# Altium footprint library inductors.PCBLIB: 83 footprints (part 3 of 6)
Each footprint in its own frame and in the unit in brackets; x right, y up, seen from the top. Pads: shape width x height; smd on the part's side, far side on the other; paste and mask are expansions set on the pad; w line width, h text height; cw(c..) or ccw(c..) is an arc to the next point about the centre after c.
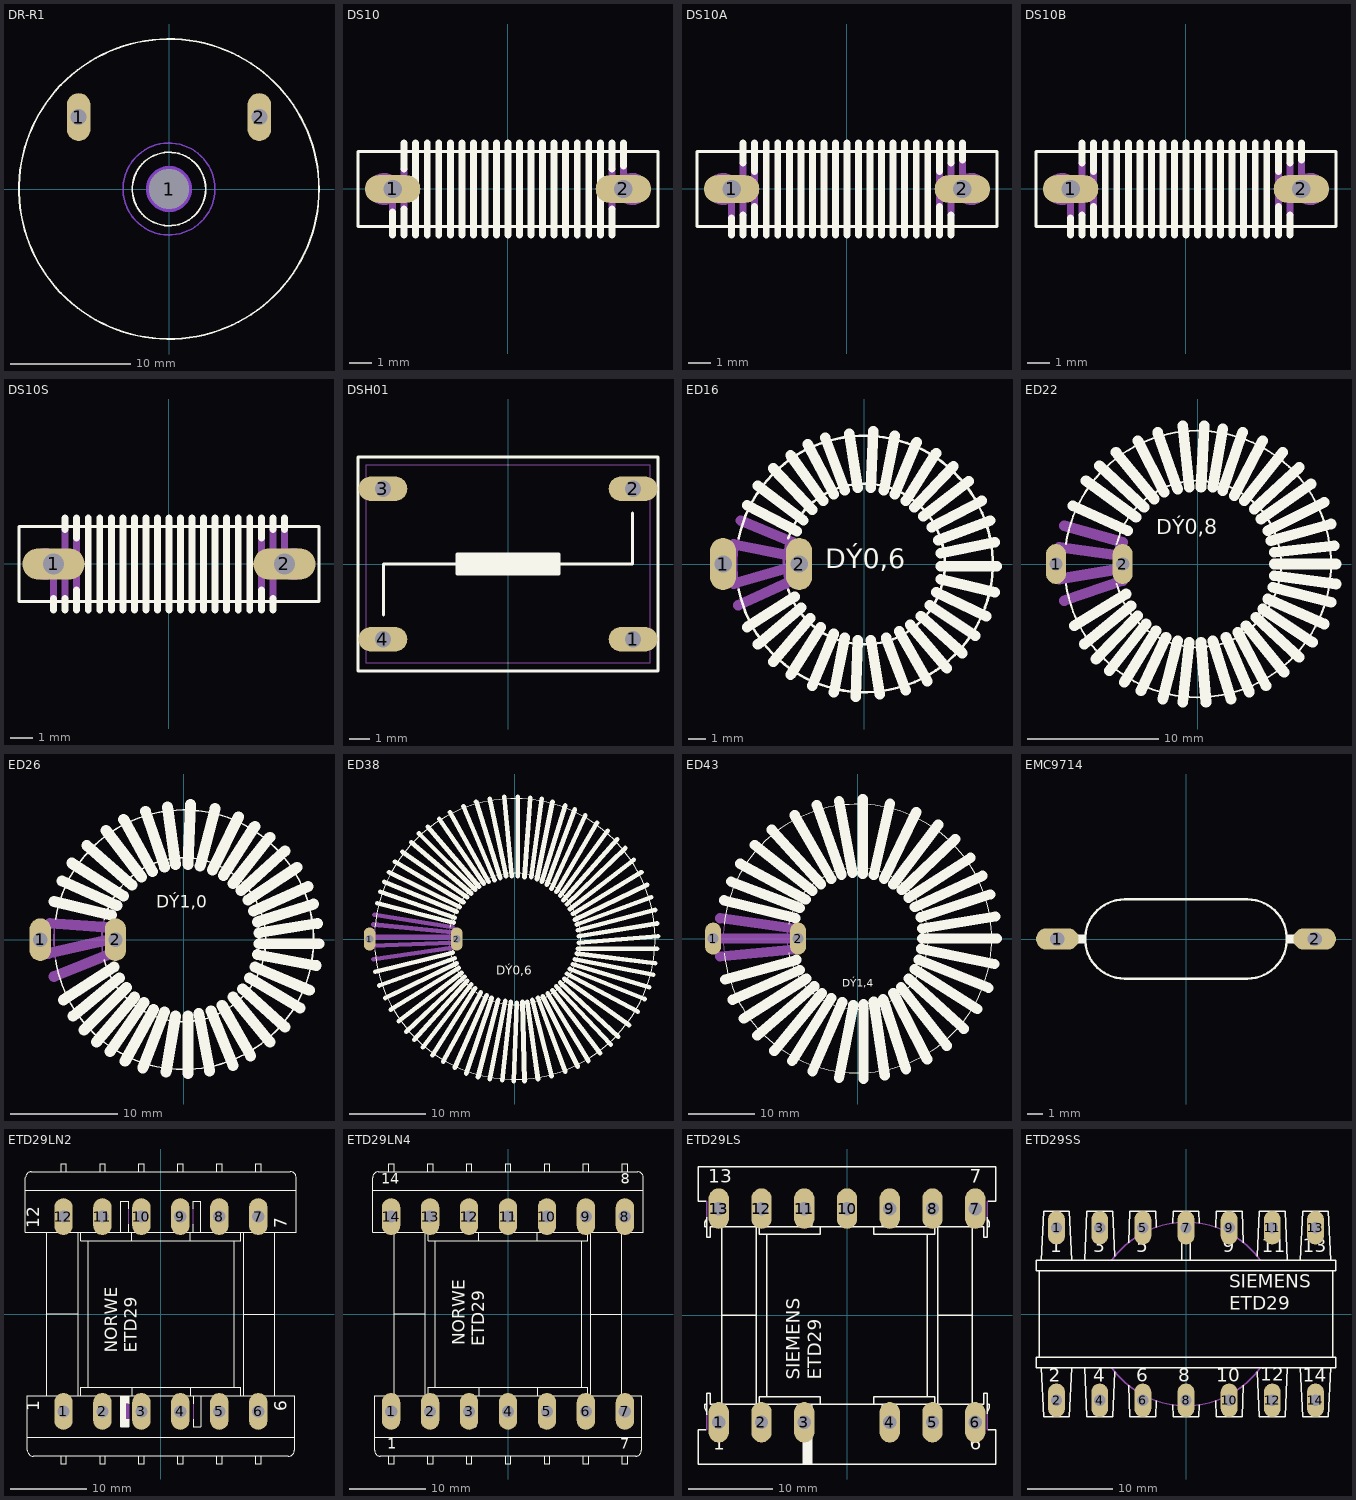
[diagram p2: the footprints below, top view; thin cyan lines are the x and y axes]

## DR-R1 [mil]
pads (3):
  oval 78x156 hole 52: 1(-295,235) 2(295,235)
  round 130 hole 130: 1(0,0)
Top Layer keep-out:
  circle w5: c0,0 r150
Bottom Layer keep-out:
  circle w5: c0,0 r150
  circle w100: c0,0 r25
Top Overlay:
  circle w6: c0,0 r490
  circle w6: c0,0 r120
  circle w6: c0,0 r60
Via Holes:
  circle w5: c0,0 r150

## DS10 [mil]
pads (2):
  oval 96x48 hole 32: 1(-200,0) 2(200,0)
Top Overlay:
  lines w6: -260,-65 260,-65 260,65 -260,65 -260,-65
  lines w12: -200,-80 -200,-40 ; -180,-80 -180,-35 ; -180,35 -180,80 ; -160,-80 -160,80 ; -140,-80 -140,80 ; -120,-80 -120,80 ; -100,-80 -100,80 ; -80,-80 -80,80 ; -60,-80 -60,80 ; -40,-80 -40,80 ; -20,-80 -20,80 ; 0,-80 0,80 ; 20,-80 20,80 ; 40,-80 40,80 ; 60,-80 60,80 ; 80,-80 80,80 ; 100,-80 100,80 ; 120,-80 120,80 ; 140,-80 140,80 ; 160,-80 160,80 ; 180,-80 180,-35 ; 180,35 180,80 ; 200,40 200,80
Mechanical 16:
  circle w6: c-215,0 r25
  circle w6: c215,0 r25
  lines w12: -200,-40 -200,5 ; -180,-35 -180,35 ; 180,-35 180,35 ; 200,-5 200,40

## DS10A [mil]
pads (2):
  oval 96x48 hole 32: 1(-200,0) 2(200,0)
Top Overlay:
  lines w6: -260,-65 260,-65 260,65 -260,65 -260,-65
  lines w12: -200,-80 -200,-50 ; -180,-80 -180,-45 ; -180,45 -180,80 ; -160,-80 -160,-30 ; -160,30 -160,80 ; -140,-80 -140,80 ; -120,-80 -120,80 ; -100,-80 -100,80 ; -80,-80 -80,80 ; -60,-80 -60,80 ; -40,-80 -40,80 ; -20,-80 -20,80 ; 0,-80 0,80 ; 20,-80 20,80 ; 40,-80 40,80 ; 60,-80 60,80 ; 80,-80 80,80 ; 100,-80 100,80 ; 120,-80 120,80 ; 140,-80 140,80 ; 160,-80 160,-30 ; 160,30 160,80 ; 180,-80 180,-45 ; 180,45 180,80 ; 200,50 200,80
Mechanical 16:
  circle w6: c-215,0 r25
  circle w6: c215,0 r25
  lines w12: -200,-50 -200,5 ; -180,-45 -180,45 ; -160,-30 -160,30 ; 160,-30 160,30 ; 180,-45 180,45 ; 200,-5 200,50

## DS10B [mil]
pads (2):
  oval 96x48 hole 32: 1(-200,0) 2(200,0)
Top Overlay:
  lines w6: -260,-65 260,-65 260,65 -260,65 -260,-65
  lines w12: -200,-80 -200,-50 ; -180,-80 -180,-45 ; -180,45 -180,80 ; -160,-80 -160,-30 ; -160,30 -160,80 ; -140,-80 -140,80 ; -120,-80 -120,80 ; -100,-80 -100,80 ; -80,-80 -80,80 ; -60,-80 -60,80 ; -40,-80 -40,80 ; -20,-80 -20,80 ; 0,-80 0,80 ; 20,-80 20,80 ; 40,-80 40,80 ; 60,-80 60,80 ; 80,-80 80,80 ; 100,-80 100,80 ; 120,-80 120,80 ; 140,-80 140,80 ; 160,-80 160,-30 ; 160,30 160,80 ; 180,-80 180,-45 ; 180,45 180,80 ; 200,50 200,80
Mechanical 16:
  circle w6: c-215,0 r25
  circle w6: c215,0 r25
  lines w12: -200,-50 -200,5 ; -180,-45 -180,45 ; -160,-30 -160,30 ; 160,-30 160,30 ; 180,-45 180,45 ; 200,-5 200,50

## DS10S [mil]
pads (2):
  oval 108x54 hole 36: 1(-200,0) 2(200,0)
Top Overlay:
  lines w6: -260,-65 260,-65 260,65 -260,65 -260,-65
  lines w12: -200,-80 -200,-60 ; -180,-80 -180,-60 ; -180,60 -180,80 ; -160,-80 -160,-45 ; -160,45 -160,80 ; -140,-80 -140,80 ; -120,-80 -120,80 ; -100,-80 -100,80 ; -80,-80 -80,80 ; -60,-80 -60,80 ; -40,-80 -40,80 ; -20,-80 -20,80 ; 0,-80 0,80 ; 20,-80 20,80 ; 40,-80 40,80 ; 60,-80 60,80 ; 80,-80 80,80 ; 100,-80 100,80 ; 120,-80 120,80 ; 140,-80 140,80 ; 160,-80 160,-45 ; 160,45 160,80 ; 180,-80 180,-60 ; 180,60 180,80 ; 200,60 200,80
Mechanical 16:
  circle w6: c-215,0 r25
  circle w6: c215,0 r25
  lines w12: -200,-60 -200,5 ; -180,-60 -180,60 ; -160,-45 -160,45 ; 160,-45 160,45 ; 180,-60 180,60 ; 200,-5 200,60

## DSH01 [mil]
pads (4):
  oval 96x48 hole 32: 1(246,-148) 2(246,148) 3(-246,148) 4(-246,-148)
Top Overlay:
  rectangle: -100,-20 100,20
  lines w6: -245,-100 -245,0 -100,0 ; 245,100 245,0 100,0 ; -100,0 -100,20 100,20 100,0 ; -100,0 -100,-20 100,-20 100,0 ; -295,-210 295,-210 295,210 -295,210 -295,-210
Mechanical 16:
  lines w2: -280,-195 280,-195 280,195 -280,195 -280,-195

## ED16 [mil]
pads (2):
  oval 60x120 hole 40: 1(-325,0) 2(-150,0)
Top Overlay:
  lines w6: -288.9,-59.69 ccw(c0,0) -288.9,59.69 ; -175.27,-59.2 ccw(c-0.01,0) -175.27,59.2
  lines w24: -270,-145 -160,-75 ; -270,135 -155,75 ; -245,-185 -145,-100 ; -245,180 -140,100 ; -210,-225 -125,-125 ; -210,220 -120,125 ; -170,-255 -100,-145 ; -170,250 -95,145 ; -130,275 -70,160 ; -120,-280 -70,-160 ; -90,290 -45,170 ; -70,-295 -45,-170 ; -35,300 -15,175 ; -20,-305 -15,-175 ; 15,-175 35,-300 ; 15,175 20,305 ; 45,170 70,295 ; 50,-170 95,-290 ; 70,160 120,280 ; 80,-155 145,-270 ; 95,145 165,255 ; 105,-140 190,-240 ; 115,130 205,225 ; 130,-120 225,-205 ; 135,110 240,190 ; 150,-95 255,-165 ; 155,85 270,145 ; 165,-65 280,-120 ; 170,55 290,100 ; 175,-35 300,-65 ; 175,-5 305,-5 ; 175,25 300,50
  text "DÝ0,6" at -90,-25 h77.5
Mechanical 16:
  lines w6: -288.9,-59.69 cw(c0,0) -288.9,59.69 ; -175.27,-59.2 cw(c-0.01,0) -175.27,59.2
  lines w24: -300,-45 -160,-5 ; -300,45 -175,20 ; -290,-95 -170,-40 ; -285,100 -165,50

## ED22 [mil]
pads (2):
  oval 60x120 hole 40: 1(-425,0) 2(-225,0)
Top Overlay:
  lines w6: -395.5,-59.83 ccw(c0,0) -395.5,59.83 ; -242.8,-59.57 ccw(c0.01,0) -242.8,59.57
  lines w32: -375,175 -210,100 ; -370,-185 -215,-90 ; -340,-240 -200,-125 ; -335,250 -185,140 ; -305,-285 -180,-155 ; -295,295 -160,170 ; -265,-320 -155,-180 ; -245,335 -130,195 ; -220,-355 -125,-200 ; -180,370 -100,215 ; -170,-380 -95,-220 ; -120,395 -60,225 ; -105,-405 -60,-230 ; -45,-415 -25,-235 ; -45,415 -25,230 ; 10,-235 25,-415 ; 10,230 20,415 ; 45,-230 100,-405 ; 45,230 75,405 ; 75,220 135,395 ; 85,-220 155,-385 ; 110,205 195,370 ; 120,-205 205,-365 ; 140,190 255,335 ; 145,-185 260,-325 ; 170,165 305,290 ; 175,-160 305,-280 ; 190,135 340,240 ; 195,-135 345,-235 ; 210,-105 380,-180 ; 210,100 380,185 ; 220,70 400,120 ; 225,-70 400,-115 ; 230,-35 415,-60 ; 230,0 415,0 ; 230,35 410,55
  text "DÝ0,8" at -125,75 h77.5
Mechanical 16:
  lines w6: -395.5,-59.83 cw(c0,0) -395.5,59.83 ; -242.8,-59.57 cw(c0.01,0) -242.8,59.57
  lines w32: -415,-45 -235,-15 ; -415,50 -230,25 ; -400,-110 -225,-50 ; -400,115 -225,65

## ED26 [mil]
pads (2):
  oval 78x156 hole 52: 1(-525,0) 2(-250,0)
Top Overlay:
  lines w6: -469.08,-74.77 ccw(c0.01,0) -469.08,74.77 ; -290.63,-74.41 ccw(c-0.02,0) -290.63,74.41
  lines w40: -475,140 -265,90 ; -445,215 -245,125 ; -440,-220 -255,-100 ; -410,280 -220,160 ; -405,-280 -235,-140 ; -365,-330 -210,-175 ; -355,345 -190,200 ; -320,-375 -180,-210 ; -285,400 -155,230 ; -270,-410 -145,-230 ; -220,440 -115,250 ; -215,-445 -110,-255 ; -150,-470 -70,-265 ; -140,470 -70,265 ; -65,-485 -30,-280 ; -60,485 -30,275 ; 15,-490 15,-280 ; 15,275 25,495 ; 55,-270 95,-480 ; 60,270 115,480 ; 100,-260 180,-460 ; 105,255 200,450 ; 140,-240 245,-425 ; 145,235 260,415 ; 180,-210 315,-375 ; 180,205 315,375 ; 210,180 370,325 ; 215,-180 370,-320 ; 235,145 415,265 ; 240,-140 425,-250 ; 255,105 455,195 ; 260,-100 460,-185 ; 270,-55 485,-95 ; 270,65 475,130 ; 275,-15 495,-15 ; 275,25 490,60
  text "DÝ1,0" at -100,100 h77.5
Mechanical 16:
  lines w6: -469.08,-74.77 cw(c0.01,0) -469.08,74.77 ; -290.63,-74.41 cw(c-0.02,0) -290.63,74.41
  lines w40: -495,-50 -275,0 ; -490,60 -270,45 ; -475,-135 -265,-50

## ED38 [mil]
pads (2):
  oval 60x120 hole 40: 1(-750,0) 2(-300,0)
Top Overlay:
  lines w6: -722.52,-59.95 ccw(c0.01,0) -722.52,59.95 ; -334.7,-59.77 ccw(c0.02,0) -334.7,59.77
  lines w24: -720,-170 -320,-70 ; -710,185 -315,85 ; -700,-240 -310,-100 ; -695,245 -310,110 ; -675,295 -300,140 ; -670,-305 -300,-125 ; -650,345 -285,165 ; -640,-365 -290,-150 ; -620,400 -265,190 ; -600,-425 -275,-175 ; -580,450 -245,215 ; -560,-480 -260,-195 ; -535,500 -225,235 ; -520,-520 -245,-215 ; -495,545 -205,255 ; -475,-560 -225,-235 ; -450,580 -185,270 ; -425,-600 -205,-255 ; -390,620 -160,285 ; -370,-635 -175,-275 ; -335,655 -135,295 ; -310,-665 -145,-290 ; -265,685 -105,305 ; -250,-695 -120,-305 ; -200,710 -75,315 ; -190,-715 -85,-315 ; -130,-725 -50,-320 ; -130,725 -45,325 ; -65,-730 -20,-325 ; -55,735 -15,325 ; -5,-735 10,-330 ; 15,325 15,735 ; 40,-325 50,-735 ; 50,320 80,730 ; 65,-325 120,-725 ; 85,320 140,725 ; 90,-315 190,-710 ; 115,310 195,710 ; 120,-305 260,-685 ; 140,295 260,690 ; 145,-295 325,-660 ; 165,280 310,670 ; 170,-280 380,-630 ; 190,260 365,640 ; 195,-265 440,-590 ; 215,-245 495,-545 ; 215,245 425,600 ; 235,-225 535,-505 ; 235,225 480,560 ; 250,200 530,515 ; 255,-205 590,-445 ; 270,-180 635,-375 ; 270,180 570,470 ; 285,-155 670,-310 ; 285,155 615,410 ; 300,-130 695,-250 ; 300,130 655,345 ; 310,-105 715,-185 ; 310,100 685,280 ; 320,-75 725,-125 ; 320,75 705,215 ; 325,-50 735,-50 ; 325,45 725,150 ; 330,-20 740,15 ; 330,15 735,80
  text "DÝ0,6" at -95,-200 h77.5
Mechanical 16:
  lines w6: -722.52,-59.95 cw(c0.01,0) -722.52,59.95 ; -334.7,-59.77 cw(c0.02,0) -334.7,59.77
  lines w24: -750,10 -325,10 ; -740,-35 -325,-20 ; -730,-105 -325,-45 ; -730,75 -325,35 ; -725,125 -320,60

## ED43 [mil]
pads (2):
  oval 94.5x189 hole 63: 1(-850,0) 2(-350,0)
Top Overlay:
  lines w6: -785.43,-84.88 ccw(c0.02,0) -785.43,84.88 ; -406.3,-84.55 ccw(c-0.01,0) -406.3,84.55
  lines w60: -785,225 -365,120 ; -780,-240 -360,-125 ; -745,335 -340,180 ; -735,-360 -340,-185 ; -690,440 -305,230 ; -670,-470 -300,-235 ; -605,550 -265,280 ; -590,-570 -255,-280 ; -505,640 -215,320 ; -490,-660 -210,-320 ; -385,-720 -155,-350 ; -370,725 -155,350 ; -265,-780 -90,-375 ; -240,785 -95,375 ; -110,-820 -25,-390 ; -110,810 -30,385 ; 30,380 30,820 ; 35,-825 35,-385 ; 95,-370 160,-805 ; 95,375 190,795 ; 150,-355 285,-770 ; 155,350 345,745 ; 210,-320 410,-710 ; 210,320 475,670 ; 255,-285 525,-630 ; 260,285 575,585 ; 300,-235 625,-530 ; 300,240 665,475 ; 335,-180 705,-415 ; 335,185 735,370 ; 360,-125 770,-290 ; 370,125 780,260 ; 375,-60 805,-150 ; 380,0 820,0 ; 380,60 810,130
  text "DÝ1,4" at -90,-300 h77.5
Mechanical 16:
  lines w6: -785.43,-84.88 cw(c0.02,0) -785.43,84.88 ; -406.3,-84.55 cw(c-0.01,0) -406.3,84.55
  lines w60: -835,0 -385,0 ; -810,-105 -375,-65 ; -810,120 -375,60

## EMC9714 [mil]
pads (2):
  oval 108x54 hole 36: 1(-325,0) 2(325,0)
Top Overlay:
  rectangle: 254,-12 279,12
  rectangle: -279,-12 -254,12
  lines w6: -155,-100 cw(c-155,0) -155,100 155,100 cw(c155,0) 155,-100 -155,-100
Mechanical 16:
  lines w24: -325,0 -275,0 ; 275,0 325,0

## ETD29LN2 [mil]
pads (12):
  oval 94.5x189 hole 63: 1(-500,-500) 2(-300,-500) 3(-100,-500) 4(100,-500) 5(300,-500) 6(500,-500) 7(500,500) 8(300,500) 9(100,500) 10(-100,500) 11(-300,500) 12(-500,500)
Top Overlay:
  rectangle: -205,-580 -165,-540
  rectangle: -205,-540 -180,-460
  rectangle: -205,-460 -165,-420
  lines w6: -585,0 -425,0 ; -165,-540 -165,-580 -205,-580 -205,-420 ; -165,-460 -165,-420 ; -165,460 -165,420 ; -165,540 -165,580 -205,580 -205,420 ; 165,-540 165,-580 205,-580 205,-420 ; 165,-460 165,-420 ; 165,460 165,420 ; 165,540 165,580 205,580 205,420 ; 425,0 585,0 ; -695,635 -695,420 -585,420 ; -695,635 -695,700 cw(c-665,700) -665,730 -515,730 ; -695,635 695,635 ; -685,-635 -685,-700 ccw(c-655,-700) -655,-730 -515,-730 ; -685,-635 -685,-420 -585,-420 ; -685,-635 685,-635 ; -585,-420 -425,-420 ; -585,-420 -585,420 ; -585,420 -425,420 ; -515,-730 -485,-730 ; -515,-730 -515,-770 -485,-770 -485,-730 ; -515,730 -485,730 ; -515,730 -515,770 -485,770 -485,730 ; -485,-730 -315,-730 ; -485,730 -315,730 ; -425,-420 -410,-420 ; -425,-420 -425,420 ; -425,420 -410,420 ; -410,-420 -205,-420 ; -410,-420 -410,-375 -375,-375 ; -410,420 -205,420 ; -410,420 -410,375 -375,375 ; -375,-375 -375,375 ; -375,-375 -150,-375 ; -375,375 -150,375 ; -315,-730 -285,-730 ; -315,-730 -315,-770 -285,-770 -285,-730 ; -315,730 -285,730 ; -315,730 -315,770 -285,770 -285,730 ; -285,-730 -115,-730 ; -285,730 -115,730 ; -205,-420 -165,-420 ; -205,420 -165,420 ; -165,-420 -150,-420 ; -165,420 -150,420 ; -150,-420 150,-420 ; -150,-420 -150,-375 ; -150,-375 150,-375 ; -150,375 -150,420 ; -150,375 150,375 ; -150,420 150,420 ; -115,-730 -85,-730 ; -115,-730 -115,-770 -85,-770 -85,-730 ; -115,730 -85,730 ; -115,730 -115,770 -85,770 -85,730 ; -85,-730 85,-730 ; -85,730 85,730 ; 85,-730 115,-730 ; 85,-730 85,-770 115,-770 115,-730 ; 85,730 115,730 ; 85,730 85,770 115,770 115,730 ; 115,-730 285,-730 ; 115,730 285,730 ; 150,-420 165,-420 ; 150,-420 150,-375 ; 150,-375 375,-375 ; 150,375 375,375 ; 150,375 150,420 ; 150,420 165,420 ; 165,-420 205,-420 ; 165,420 205,420 ; 205,-420 410,-420 ; 205,420 410,420 ; 285,-730 315,-730 ; 285,-730 285,-770 315,-770 315,-730 ; 285,730 315,730 ; 285,730 285,770 315,770 315,730 ; 315,-730 485,-730 ; 315,730 485,730 ; 375,-375 410,-375 410,-420 ; 375,-375 375,375 ; 375,375 410,375 410,420 ; 410,-420 425,-420 ; 410,420 425,420 ; 425,-420 585,-420 ; 425,-420 425,420 ; 425,420 585,420 ; 485,-730 515,-730 ; 485,-730 485,-770 515,-770 515,-730 ; 485,730 515,730 ; 485,730 485,770 515,770 515,730 ; 515,-730 655,-730 ccw(c655,-700) 685,-700 685,-635 ; 515,730 665,730 cw(c665,700) 695,700 695,635 ; 585,-420 685,-420 685,-635 ; 585,-420 585,420 ; 585,420 695,420 695,635
  text "1" at -600,-500 h108.5
  text "6" at 670,-500 h108.5
  text "7" at 670,440 h108.5
  text "12" at -600,440 h108.5
  text "NORWE" at -200,-200 h108.5
  text "ETD29" at -100,-200 h108.5
Mechanical 16:
  rectangle: -180,-540 -165,-460
  lines w6: -165,-540 -165,-460 ; -165,460 -165,540 ; 165,-540 165,-460 ; 165,460 165,540

## ETD29LN4 [mil]
pads (14):
  oval 94.5x189 hole 63: 1(-600,-500) 2(-400,-500) 3(-200,-500) 4(0,-500) 5(200,-500) 6(400,-500) 7(600,-500) 8(600,500) 9(400,500) 10(200,500) 11(0,500) 12(-200,500) 13(-400,500) 14(-600,500)
Top Overlay:
  drawing of 160 lines, arcs and shapes, not listed
  text "1" at -620,-710 h93
  text "NORWE" at -200,-160 h108.5
  text "ETD29" at -100,-165 h108.5
  text "7" at 575,-710 h93
  text "8" at 580,650 h93
  text "14" at -650,650 h93
Mechanical 16:
  rectangle: -205,-570 -165,-430
  lines w6: -205,-570 -205,-430 ; -205,430 -205,570 ; -165,-570 -165,-435 ; -165,435 -165,570 ; 165,-570 165,-435 ; 165,435 165,570 ; 205,-570 205,-430 ; 205,430 205,570

## ETD29LS [mil]
pads (13):
  oval 94.5x189 hole 63: 1(-600,-500) 2(-400,-500) 3(-200,-500) 4(200,-500) 5(400,-500) 6(600,-500) 7(600,500) 8(400,500) 9(200,500) 10(0,500) 11(-200,500) 12(-400,500) 13(-600,500)
Top Overlay:
  rectangle: -205,-430 -165,-415
  rectangle: -205,-695 -165,-570
  lines w6: -660,-535 -695,-535 -695,-695 -205,-695 ; -660,535 -695,535 -695,695 695,695 695,535 660,535 ; -655,-465 -655,-365 -640,-365 -640,-415 -585,-415 ; -655,-450 -665,-435 -665,-415 -655,-415 ; -655,415 -665,415 -665,435 -655,450 ; -655,460 -655,365 -640,365 -640,415 -585,415 ; -585,0 -425,0 ; -375,-380 -375,380 ; -205,-570 -205,-695 ; -205,-430 -205,-415 ; -205,430 -205,415 ; -165,-560 -165,-695 ; -165,-440 -165,-415 ; -165,440 -165,415 ; 165,-440 165,-415 ; 165,440 165,415 ; 205,-430 205,-415 ; 205,430 205,415 ; 425,0 585,0 ; 655,-460 655,-365 640,-365 640,-415 585,-415 ; 655,-450 665,-435 665,-415 655,-415 ; 655,415 665,415 665,435 655,450 ; 655,460 655,365 640,365 640,415 585,415 ; 660,-535 695,-535 695,-695 -165,-695 ; -585,-415 -425,-415 ; -585,-415 -585,415 ; -585,415 -425,415 ; -425,-415 -410,-415 ; -425,-415 -425,415 ; -425,415 -410,415 ; -410,-415 -205,-415 ; -410,-415 -410,-380 -125,-380 -125,-415 ; -410,415 -205,415 ; -410,415 -410,380 -125,380 -125,415 ; -205,-695 -165,-695 ; -205,-415 -165,-415 ; -205,415 -165,415 ; -165,-415 -125,-415 ; -165,415 -125,415 ; -125,-415 125,-415 ; -125,415 125,415 ; 125,-415 165,-415 ; 125,-415 125,-380 375,-380 ; 125,415 165,415 ; 125,415 125,380 375,380 ; 165,-415 205,-415 ; 165,415 205,415 ; 205,-415 410,-415 ; 205,415 410,415 ; 375,-380 410,-380 410,-415 ; 375,-380 375,380 ; 375,380 410,380 410,415 ; 410,-415 425,-415 ; 410,415 425,415 ; 425,-415 585,-415 ; 425,-415 425,415 ; 425,415 585,415 ; 585,-415 585,415
  text "1" at -625,-650 h108.5
  text "6" at 575,-650 h108.5
  text "7" at 575,600 h108.5
  text "13" at -650,600 h108.5
  text "SIEMENS" at -200,-300 h108.5
  text "ETD29" at -100,-300 h108.5
Mechanical 16:
  rectangle: -205,-570 -165,-430
  lines w6: -660,-535 -655,-535 -655,-465 ; -660,535 -655,535 -655,460 ; -205,-570 -205,-430 ; -205,430 -205,515 -165,515 -165,440 ; -165,-560 -165,-440 ; 165,-440 165,-515 205,-515 205,-430 ; 165,440 165,515 205,515 205,430 ; 655,-460 655,-535 660,-535 ; 655,460 655,535 660,535

## ETD29SS [mil]
pads (14):
  oval 78x156 hole 52: 1(-600,400) 2(-600,-400) 3(-400,400) 4(-400,-400) 5(-200,400) 6(-200,-400) 7(0,400) 8(0,-400) 9(200,400) 10(200,-400) 11(400,400) 12(400,-400) 13(600,400) 14(600,-400)
Top Overlay:
  lines w6: -331,-267 -340,-475 -460,-475 -470,-250 ; -331,267 -340,475 -460,475 -470,250 ; -266,-331 -260,-475 -140,-475 -137,-402 ; -266,331 -260,475 -140,475 -137,402 ; -62,-420 -60,-475 60,-475 62,-420 ; -62,420 -60,475 60,475 62,420 ; -20,340 -20,250 ; 20,340 20,250 ; 137,-402 140,-475 260,-475 266,-331 ; 137,402 140,475 260,475 266,331 ; 331,-267 340,-475 460,-475 470,-250 ; 331,267 340,475 460,475 470,250 ; -680,-200 -680,200 ; -680,-200 -695,-200 -695,-250 -670,-250 ; -680,-200 680,-200 ; -680,200 -695,200 -695,250 -670,250 ; -680,200 680,200 ; -670,-250 -660,-475 -540,-475 -530,-250 ; -670,-250 -530,-250 ; -670,250 -660,475 -540,475 -530,250 ; -670,250 -530,250 ; -530,-250 -470,-250 ; -530,250 -470,250 ; -470,-250 470,-250 ; -470,250 -20,250 ; -20,250 20,250 ; 20,250 470,250 ; 470,-250 530,-250 ; 470,250 530,250 ; 530,-250 670,-250 ; 530,-250 540,-475 660,-475 670,-250 ; 530,250 540,475 660,475 670,250 ; 530,250 670,250 ; 670,-250 695,-250 695,-200 680,-200 ; 670,250 695,250 695,200 680,200 ; 680,-200 680,200
  text "1" at -630,265 h108.5
  text "2" at -635,-335 h108.5
  text "3" at -430,265 h108.5
  text "4" at -430,-335 h108.5
  text "5" at -230,265 h108.5
  text "6" at -230,-335 h108.5
  text "8" at -35,-335 h108.5
  text "10" at 140,-335 h108.5
  text "12" at 345,-330 h108.5
  text "14" at 540,-335 h108.5
  text "9" at 170,265 h108.5
  text "11" at 350,265 h108.5
  text "13" at 540,265 h108.5
  text "SIEMENS" at 200,100 h108.5
  text "ETD29" at 200,0 h108.5
Mechanical 16:
  lines w6: -344,-250 ccw(c0,0) 344,-250 ; -344,250 cw(c0,0) 344,250 ; -20,340 -20,400 20,400 20,340